# Altium footprint library CA5611GWA.PcbLib: 1 footprints
Each footprint in its own frame and in the unit in brackets; x right, y up, seen from the top. Pads: shape width x height; smd on the part's side, far side on the other; paste and mask are expansions set on the pad; w line width, h text height; cw(c..) or ccw(c..) is an arc to the next point about the centre after c.
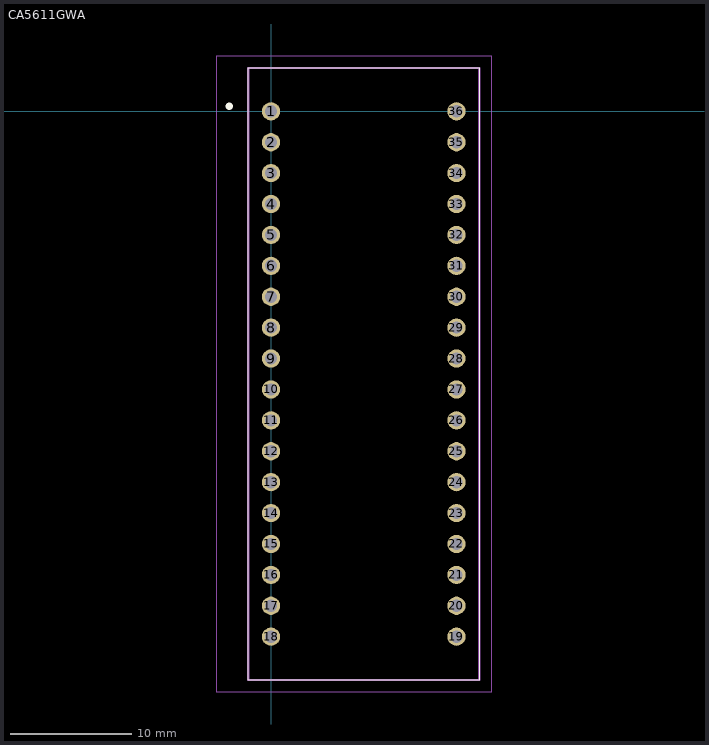
[diagram p0: the footprint, top view; thin cyan lines are the x and y axes]

## CA5611GWA [mm]
pads (36):
  round 1.5 hole 1: 1(0,0) 2(0,-2.54) 3(0,-5.08) 4(0,-7.62) 5(0,-10.16) 6(0,-12.7) 7(0,-15.24) 8(0,-17.78) 9(0,-20.32) 10(0,-22.86) 11(0,-25.4) 12(0,-27.94) 13(0,-30.48) 14(0,-33.02) 15(0,-35.56) 16(0,-38.1) 17(0,-40.64) 18(0,-43.18) 19(15.24,-43.18) 20(15.24,-40.64) 21(15.24,-38.1) 22(15.24,-35.56) 23(15.24,-33.02) 24(15.24,-30.48) 25(15.24,-27.94) 26(15.24,-25.4) 27(15.24,-22.86) 28(15.24,-20.32) 29(15.24,-17.78) 30(15.24,-15.24) 31(15.24,-12.7) 32(15.24,-10.16) 33(15.24,-7.62) 34(15.24,-5.08) 35(15.24,-2.54) 36(15.24,0)
Top Overlay:
  lines w0.1: -1.88,-46.74 17.12,-46.74 17.12,3.56 -1.88,3.56 -1.88,-46.74
  lines w0.5: -3.48,0.41 cw(c-3.43,0.41) -3.38,0.41 ; -3.48,0.41 -3.48,0.41 ; -3.48,0.41 ccw(c-3.43,0.41) -3.38,0.41 ; -3.38,0.41 -3.38,0.41
Mechanical 15:
  lines w0.2: -1.88,-46.74 17.12,-46.74 17.12,3.56 -1.88,3.56 -1.88,-46.74
Mechanical 20:
  lines w0.1: -4.48,-47.74 18.12,-47.74 18.12,4.56 -4.48,4.56 -4.48,-47.74